# Altium schematic symbol library LM51551QDSSTQ1.Schlib: 1 symbol
Pins are listed as number, name and electrical type; pins without a type are passive.

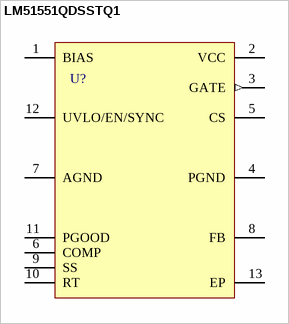
[diagram p0: symbol LM51551QDSSTQ1]

## LM51551QDSSTQ1
designator U?
45V 2.2-MHz Nonsynchronous Boost, SEPIC, Flyback Controller
pins: 1 BIAS, 2 VCC (power), 3 GATE (out), 4 PGND (power), 5 CS, 6 COMP, 7 AGND (power), 8 FB, 9 SS, 10 RT, 11 PGOOD (oc), 12 UVLO/EN/SYNC, 13 EP (power)